# Altium integrated library MBR20200_DIODE.IntLib: 1 symbol
Pins are listed as number, name and electrical type; pins without a type are passive.

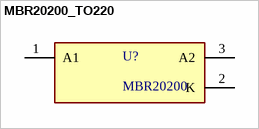
[diagram p0: symbol MBR20200_TO220]

## MBR20200_TO220
designator U?, comment MBR20200
Dual Common Cathode Schottky Rectifier 2 x 10A; Mantech Part Number: 15M0530; MP: MBR20200; Value: *
footprint MBR20200
pins: 1 A1, 2 K (power), 3 A2